# Altium schematic symbol library SCH_Connector.SchLib: 7 symbols
Pins are listed as number, name and electrical type; pins without a type are passive.

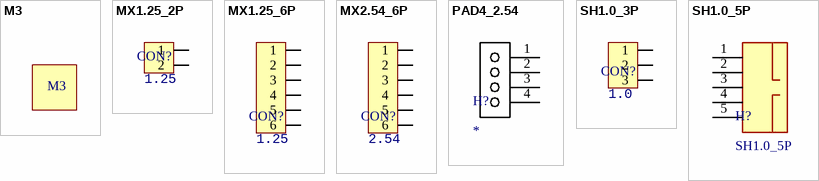
[diagram p0: symbols M3 to SH1.0_5P]

## M3
designator  
footprint M3

## MX1.25_2P
designator CON?  value 1.25  (hidden comment: MX1.25_2P)
MX; Note: 2P; Manufacturer: *; Specification: *; Link: *; Type: S90
footprint MX1.25_S90_2P
pins: 0, 1, 2

## MX1.25_6P
designator CON?  value 1.25  (hidden comment: MX1.25_6P)
MX; Note: 6P; Manufacturer: *; Specification: *; Link: *; Type: S90
footprint MX1.25_S90_6P
pins: 0, 1, 2, 3, 4, 5, 6

## MX2.54_6P
designator CON?  value 2.54  (hidden comment: MX2.54_6P)
MX; Note: 6P; Manufacturer: *; Specification: *; Link: *; Type: S90
footprint MX2.54_S90_6P
pins: 0, 1, 2, 3, 4, 5, 6

## PAD4_2.54
designator H?
footprint PAD4_2.54
pins: 1, 2, 3, 4

## SH1.0_3P
designator CON?  value 1.0  (hidden comment: SH1.0_3P)
SH1.0; Note: 2P; Manufacturer: *; Specification: *; Link: *; Type: S90
footprint SH1.0_3P
pins: 0, 1, 2, 3

## SH1.0_5P
designator H?
SH1.0
footprint SH1.0_5P
pins: 1, 2, 3, 4, 5